# Altium footprint library RayPCB20210502.PcbLib: 211 footprints (part 10 of 14)
Each footprint in its own frame and in the unit in brackets; x right, y up, seen from the top. Pads: shape width x height; smd on the part's side, far side on the other; paste and mask are expansions set on the pad; w line width, h text height; cw(c..) or ccw(c..) is an arc to the next point about the centre after c.
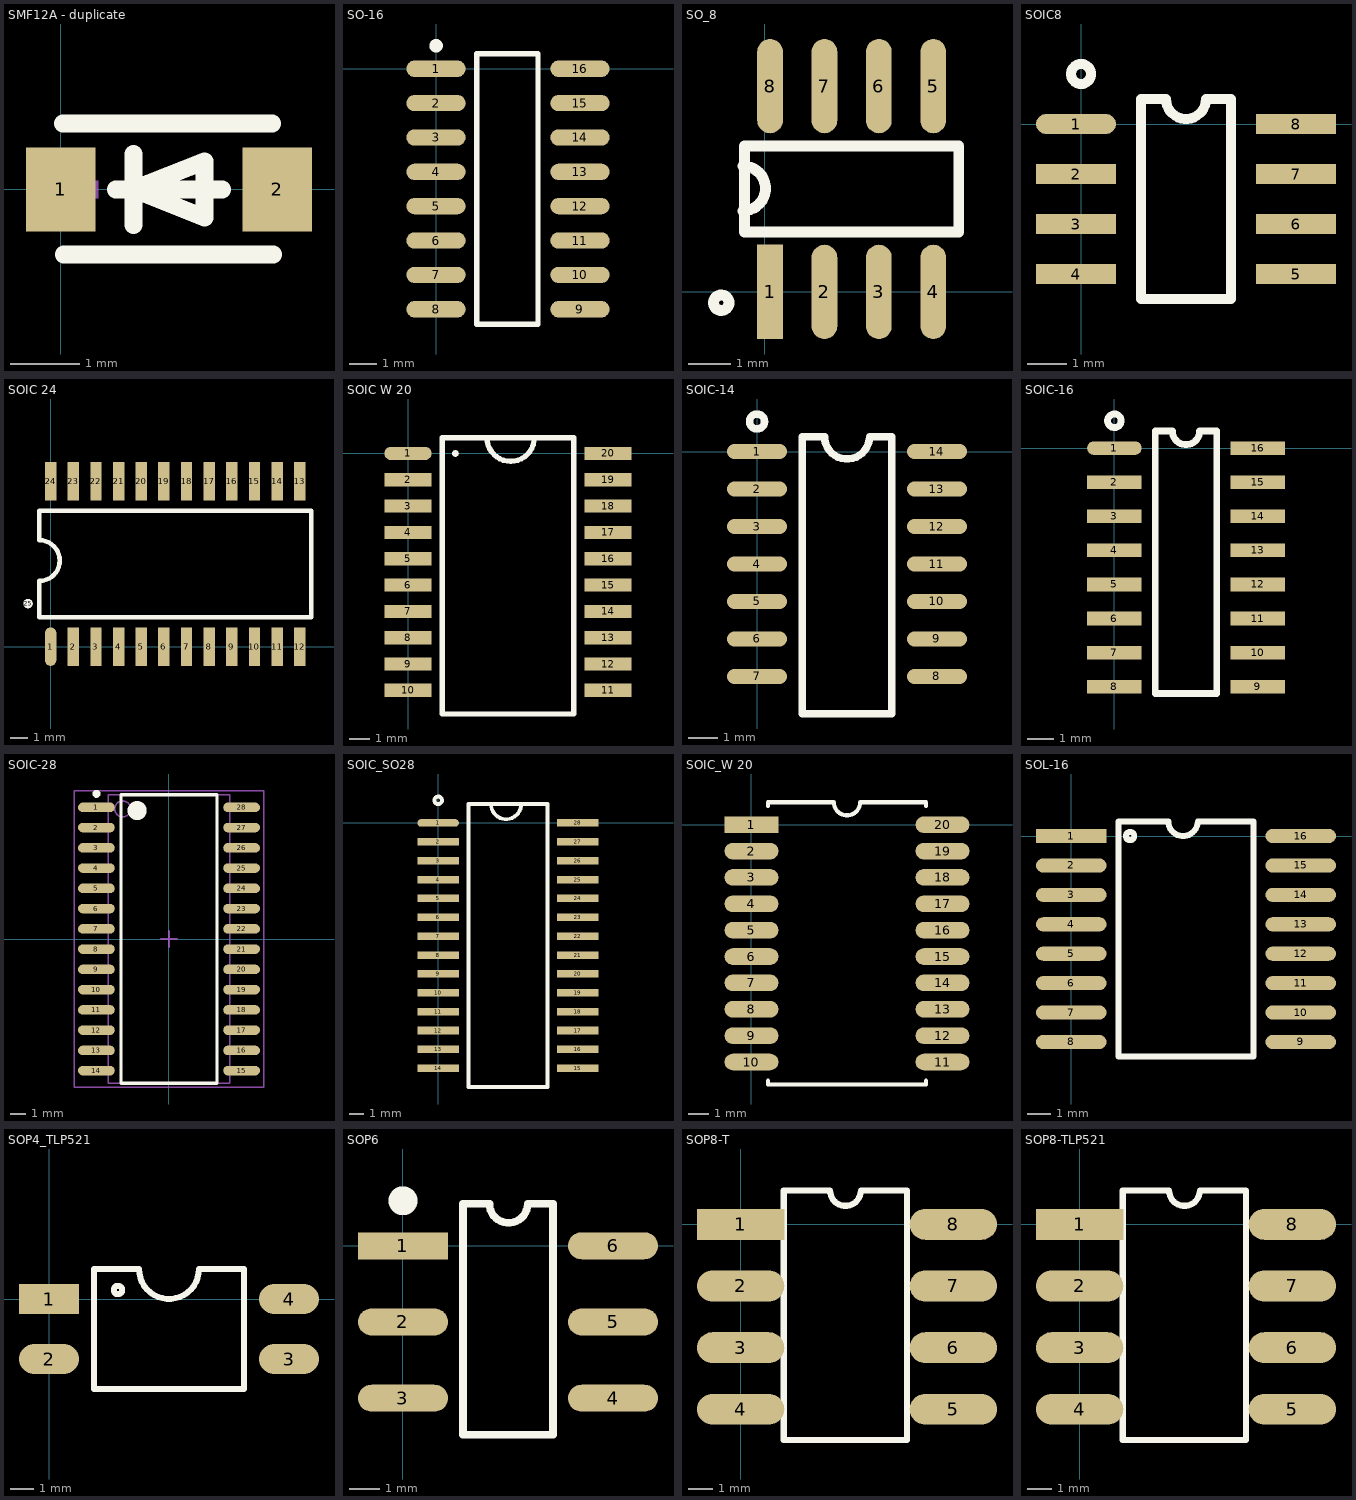
[diagram p9: the footprints below, top view; thin cyan lines are the x and y axes]

## SMF12A - duplicate [mm] "SOD123F"
pads (2):
  rect 1x1.2 smd: 1(0,0) 2(3.1,0)
Top Overlay:
  lines w0.254: 0.03,0.947 3.03,0.947 ; 0.043,-0.933 3.043,-0.933 ; 0.788,0 2.312,0 ; 1.042,-0.508 1.042,0.508 ; 1.042,0 2.058,0.406 2.058,-0.406 1.042,0
Mechanical 15:
  region: 2.693,0.127 3.582,0.127 3.582,-0.127 2.693,-0.127
  region: 3.021,-0.436 3.021,0.453 3.275,0.453 3.275,-0.436
  region: -0.355,0.127 0.534,0.127 0.534,-0.127 -0.355,-0.127

## SO-16 [mm]
pads (16):
  oval 2.2x0.6 smd: 1(0,0) 2(0,-1.27) 3(0,-2.54) 4(0,-3.81) 5(0,-5.08) 6(0,-6.35) 7(0,-7.62) 8(0,-8.89) 9(5.32,-8.89) 10(5.32,-7.62) 11(5.32,-6.35) 12(5.32,-5.08) 13(5.32,-3.81) 14(5.32,-2.54) 15(5.32,-1.27) 16(5.32,0)
Top Overlay:
  circle w0.25: c0,0.85 r0.125
  lines w0.2: 1.5,-9.445 1.5,0.555 3.77,0.555 3.77,-9.445 1.5,-9.445

## SO_8 [mm] "MAX3485ESA"
pads (8):
  rect 0.6x2.2 smd: 1(0.122,0)
  oval 0.6x2.2 smd: 2(1.392,0) 3(2.662,0) 4(3.932,0) 5(3.932,4.8) 6(2.662,4.8) 7(1.392,4.8) 8(0.122,4.8)
Top Overlay:
  circle w0.254: c-1.016,-0.254 r0.18
  lines w0.254: -0.508,1.889 ccw(c-0.508,2.413) -0.508,2.937 ; -0.473,1.4 -0.473,3.4 4.527,3.4 4.527,1.4 -0.473,1.4

## SOIC8 [mil]
pads (8):
  oval 80x20 smd: 1(-5,0)
  rect 80x20 smd: 2(-5,-50) 3(-5,-100) 4(-5,-150) 5(215,-150) 6(215,-100) 7(215,-50) 8(215,0)
Top Overlay:
  circle w10: c0,50 r10
  lines w10: 60,-175 60,25 85,25 ccw(c105,25) 125,25 150,25 150,-175 60,-175

## SOIC 24 [mil]
pads (25):
  oval 25x85 smd: 1(0,0)
  rect 25x85 smd: 2(50,0) 3(100,0) 4(150,0) 5(200,0) 6(250,0) 7(300,0) 8(350,0) 9(400,0) 10(450,0) 11(500,0) 12(550,0) 13(550,365) 14(500,365) 15(450,365) 16(400,365) 17(350,365) 18(300,365) 19(250,365) 20(200,365) 21(150,365) 22(100,365) 23(50,365) 24(0,365)
  round 21 on Top Overlay: 25(-50,95)
Top Overlay:
  lines w10: -25,65 575,65 575,300 -25,300 -25,235 cw(c-25,190) -25,145 -25,65

## SOIC W 20 [mil]
pads (21):
  oval 90x25 smd: 1(0,0)
  rect 90x25 smd: 2(0,-50) 3(0,-100) 4(0,-150) 5(0,-200) 6(0,-250) 7(0,-300) 8(0,-350) 9(0,-400) 10(0,-450) 11(380,-450) 12(380,-400) 13(380,-350) 14(380,-300) 15(380,-250) 16(380,-200) 17(380,-150) 18(380,-100) 19(380,-50) 20(380,0)
  round 13 on Top Overlay: 21(90,0)
Top Overlay:
  lines w10: 150,30 ccw(c195,30) 240,30 ; 65,-495 315,-495 315,30 65,30 65,-495

## SOIC-14 [mil] "74HCXXX"
pads (14):
  oval 80x20 smd: 1(0,0) 2(0,-50) 3(0,-100) 4(0,-150) 5(0,-200) 6(0,-250) 7(0,-300) 8(240,-300) 9(240,-250) 10(240,-200) 11(240,-150) 12(240,-100) 13(240,-50) 14(240,0)
Top Overlay:
  circle w10: c0,40 r10
  lines w10: 60,-350 180,-350 180,20 150,20 cw(c120,20) 90,20 60,20 60,-350

## SOIC-16 [mil]
pads (16):
  oval 80x20 smd: 1(0,0)
  rect 80x20 smd: 2(0,-50) 3(0,-100) 4(0,-150) 5(0,-200) 6(0,-250) 7(0,-300) 8(0,-350) 9(210,-350) 10(210,-300) 11(210,-250) 12(210,-200) 13(210,-150) 14(210,-100) 15(210,-50) 16(210,0)
Top Overlay:
  circle w10: c0,40 r10
  lines w10: 60,-360 150,-360 150,25 125,25 cw(c105,25) 85,25 60,25 60,-360

## SOIC-28 [mm] "PIC18F25K22-I/SO"
pads (28):
  oval 2.3x0.6 smd: 1(-4.55,8.255) 2(-4.55,6.985) 3(-4.55,5.715) 4(-4.55,4.445) 5(-4.55,3.175) 6(-4.55,1.905) 7(-4.55,0.635) 8(-4.55,-0.635) 9(-4.55,-1.905) 10(-4.55,-3.175) 11(-4.55,-4.445) 12(-4.55,-5.715) 13(-4.55,-6.985) 14(-4.55,-8.255) 15(4.55,-8.255) 16(4.55,-6.985) 17(4.55,-5.715) 18(4.55,-4.445) 19(4.55,-3.175) 20(4.55,-1.905) 21(4.55,-0.635) 22(4.55,0.635) 23(4.55,1.905) 24(4.55,3.175) 25(4.55,4.445) 26(4.55,5.715) 27(4.55,6.985) 28(4.55,8.255)
Top Overlay:
  circle w0.25: c-4.55,9.105 r0.125
  circle w0.6: c-2,8.05 r0.3
  lines w0.2: -3,-9.05 -3,9.05 3,9.05 3,-9.05 -3,-9.05
Mechanical 13:
  circle w0.1: c-2.9,8.155 r0.5
  lines w0.1: -3.8,-9.055 -3.8,9.055 3.8,9.055 3.8,-9.055 -3.8,-9.055
Mechanical 15:
  lines w0.1: -0.5,0 0.5,0 ; 0,-0.5 0,0.5 ; -5.95,-9.3 -5.95,9.3 5.95,9.3 5.95,-9.3 -5.95,-9.3
3D body: height 2.65, standoff 0, extent -3.8,-9.055 3.8,9.055

## SOIC_SO28 [mil] "PIC18F26K22"
pads (28):
  oval 110x20 smd: 1(0,0)
  rect 110x20 smd: 2(0,-50) 3(0,-100) 4(0,-150) 5(0,-200) 6(0,-250) 7(0,-300) 8(0,-350) 9(0,-400) 10(0,-450) 11(0,-500) 12(0,-550) 13(0,-600) 14(0,-650) 15(370,-650) 16(370,-600) 17(370,-550) 18(370,-500) 19(370,-450) 20(370,-400) 21(370,-350) 22(370,-300) 23(370,-250) 24(370,-200) 25(370,-150) 26(370,-100) 27(370,-50) 28(370,0)
Top Overlay:
  circle w10: c0,60 r10
  lines w10: 140,50 ccw(c180,50) 220,50 ; 80,-700 80,50 290,50 290,-700 80,-700

## SOIC_W 20 [mm] "DRV8803DW"
pads (20):
  rect 2.6x0.8 smd: 1(0,0)
  oval 2.6x0.8 smd: 2(0,-1.27) 3(0,-2.54) 4(0,-3.81) 5(0,-5.08) 6(0,-6.35) 7(0,-7.62) 8(0,-8.89) 9(0,-10.16) 10(0,-11.43) 11(9.2,-11.43) 12(9.2,-10.16) 13(9.2,-8.89) 14(9.2,-7.62) 15(9.2,-6.35) 16(9.2,-5.08) 17(9.2,-3.81) 18(9.2,-2.54) 19(9.2,-1.27) 20(9.2,0)
Top Overlay:
  lines w0.2: 0.8,-12.33 0.8,-12.515 8.4,-12.515 8.4,-12.33 ; 0.8,0.9 0.8,1.085 3.965,1.085 ccw(c4.6,1.085) 5.235,1.085 8.4,1.085 8.4,0.9

## SOL-16 [mil] "ADUM1300"
pads (16):
  rect 120x24 smd: 1(0,0)
  oval 120x24 smd: 2(0,-50) 3(0,-100) 4(0,-150) 5(0,-200) 6(0,-250) 7(0,-300) 8(0,-350) 9(390,-350) 10(390,-300) 11(390,-250) 12(390,-200) 13(390,-150) 14(390,-100) 15(390,-50) 16(390,0)
Top Overlay:
  circle w10: c100,0 r7.07
  lines w10: 80,-375 80,25 165,25 ccw(c190,25) 215,25 310,25 310,-375 80,-375

## SOP4_TLP521 [mil]
pads (4):
  rect 100x50 smd: 1(0,0)
  oval 100x50 smd: 2(0,-100) 3(400,-100) 4(400,0)
Top Overlay:
  circle w10: c115,15 r7.07
  lines w10: 75,-150 325,-150 325,50 250,50 cw(c200,50) 150,50 75,50 75,-150

## SOP6 [mm]
pads (6):
  rect 3x0.9 smd: 1(0,0)
  oval 3x0.9 smd: 2(0,-2.54) 3(0,-5.08) 4(7,-5.08) 5(7,-2.54) 6(7,0)
Top Overlay:
  circle w0.762: c0,1.5 r0.1
  lines w0.254: 2,-6.3 2,1.397 2.883,1.397 ccw(c3.518,1.397) 4.153,1.397 5,1.397 5,-6.3 2,-6.3

## SOP8-T [mm] "6N136"
pads (8):
  rect 3.6x1.27 smd: 1(0,0)
  oval 3.6x1.27 smd: 2(0,-2.54) 3(0,-5.08) 4(0,-7.62) 5(8.763,-7.62) 6(8.763,-5.08) 7(8.763,-2.54) 8(8.763,0)
Top Overlay:
  lines w0.254: 1.778,-8.89 1.778,1.397 3.683,1.397 ccw(c4.318,1.397) 4.953,1.397 6.858,1.397 6.858,-8.89 1.778,-8.89

## SOP8-TLP521 [mm] "TLP521-4"
pads (8):
  rect 3.6x1.27 smd: 1(0,0)
  oval 3.6x1.27 smd: 2(0,-2.54) 3(0,-5.08) 4(0,-7.62) 5(8.763,-7.62) 6(8.763,-5.08) 7(8.763,-2.54) 8(8.763,0)
Top Overlay:
  lines w0.254: 1.778,-8.89 1.778,1.397 3.683,1.397 ccw(c4.318,1.397) 4.953,1.397 6.858,1.397 6.858,-8.89 1.778,-8.89